# Altium schematic symbol library MPZ1608S221ATA00.SchLib: 1 symbol
Pins are listed as number, name and electrical type; pins without a type are passive.

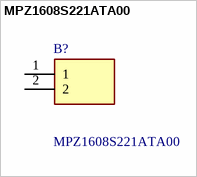
[diagram p0: symbol MPZ1608S221ATA00]

## MPZ1608S221ATA00
designator B?
220 Ohms @ 100MHz 1 Power Line Ferrite Bead 0603 (1608 Metric) 2.2A 50mOhm; Manufacturer_Name: TDK; Geometry.Height: 0.75mm; Mouser Part Number: 810-MPZ1608S221ATA00; Mouser Price/Stock: https://www.mouser.co.uk/ProductDetail/TDK/MPZ1608S221ATA00?qs=pLY5GE0xrmLZeKkazChaNg%3D%3D; Manufacturer_Part_Number: MPZ1608S221ATA00; Datasheet Link: https://product.tdk.com/system/files/dam/doc/product/emc/emc/beads/catalog/beads_commercial_power_mpz1608_en.pdf
footprint BEADC1608X75N
pins: 1, 2